# Altium footprint library SM_C_1210.PcbLib: 1 footprints
Each footprint in its own frame and in the unit in brackets; x right, y up, seen from the top. Pads: shape width x height; smd on the part's side, far side on the other; paste and mask are expansions set on the pad; w line width, h text height; cw(c..) or ccw(c..) is an arc to the next point about the centre after c.
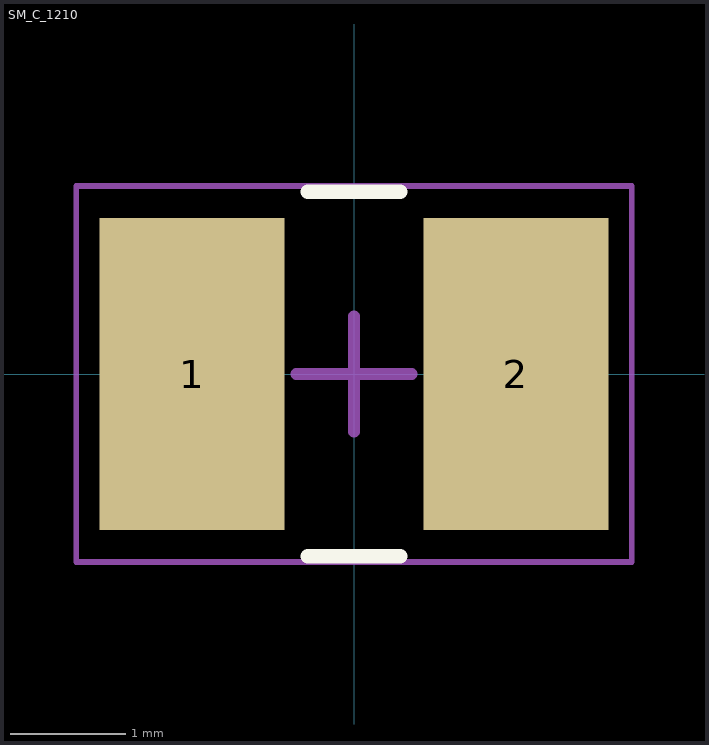
[diagram p0: the footprint, top view; thin cyan lines are the x and y axes]

## SM_C_1210 [mm]
height 2.7
pads (2):
  rect 1.6x2.7 smd: 1(-1.4,0) 2(1.4,0)
Top Overlay:
  lines w0.127: -0.4,-1.575 0.4,-1.575 ; -0.4,1.575 0.4,1.575
Mechanical 15:
  lines w0.05: -2.4,-1.625 -2.4,1.625 2.4,1.625 2.4,-1.625 -2.4,-1.625
  lines w0.1: -0.5,0 0.5,0 ; 0,-0.5 0,0.5
3D body: height 2.7, standoff 0, extent 1.181,-1.35 1.75,1.35
3D body: height 2.7, standoff 0, extent -1.18,-1.35 1.181,1.35
3D body: height 2.7, standoff 0, extent -1.75,-1.35 -1.18,1.35